# Altium footprint library KBP_307_Bridge.PcbLib: 1 footprints
Each footprint in its own frame and in the unit in brackets; x right, y up, seen from the top. Pads: shape width x height; smd on the part's side, far side on the other; paste and mask are expansions set on the pad; w line width, h text height; cw(c..) or ccw(c..) is an arc to the next point about the centre after c.
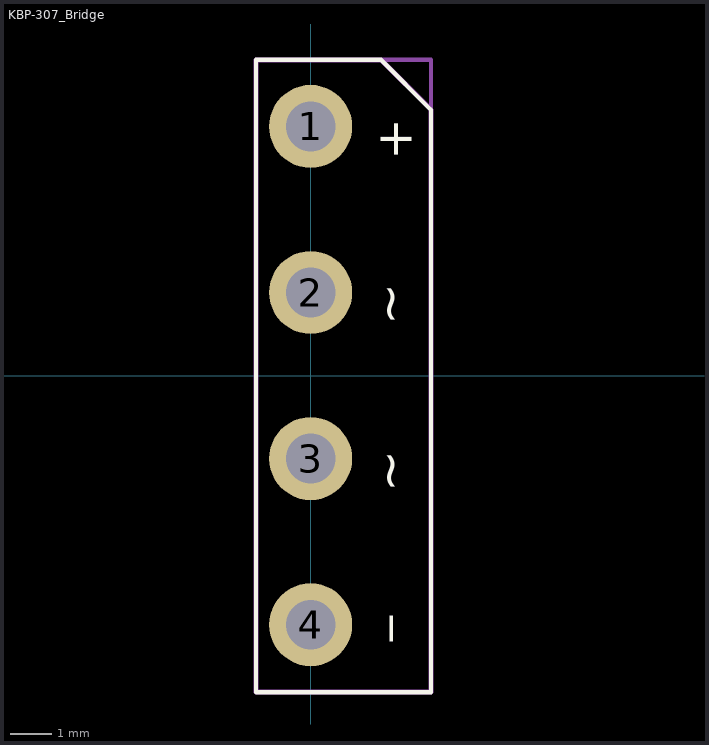
[diagram p0: the footprint, top view; thin cyan lines are the x and y axes]

## KBP-307_Bridge [mm] "KBP-307_Bridge Rectifiers ROHS"
pads (4):
  round 2 hole 1.2 paste-2 mask+0: 1(0,6) 2(0,2) 3(0,-2) 4(0,-6)
Top Overlay:
  lines w0.1: -1.313,-7.62 -1.309,-7.624 2.898,-7.624 2.9,-7.622 2.9,6.4 1.695,7.605 -1.313,7.605 -1.313,-7.62
  text "_" at 1.9,-5.8 h1.5
  text "~" at 1.264,-1.802 h1.5
  text "+" at 1.4,6.2 h1.5
  text "~" at 1.264,2.222 h1.5
Mechanical 1:
  lines w0.1: -1.313,-7.62 -1.309,-7.624 ; 2.898,-7.624 2.9,-7.622 ; -1.313,-7.618 2.895,-7.618 2.895,7.605 -1.313,7.605 -1.313,-7.618
  lines w0.12: -1.313,-7.62 -1.313,7.605 1.695,7.605 2.9,6.4 2.9,-7.622 ; -1.309,-7.624 2.898,-7.624
  text ".Designator" at 0,0.188 h1
Mechanical 15:
  text "+" at -0.666,-1 h2
3D body "KBP307.step": height 14.84, standoff -12.04, extent -1.3,-7.62 2.9,7.62